# EAGLE library part MODULAR-JACK-6P-RJ11_I2S_MASTER_INPUT (library FaBo-Connetor)
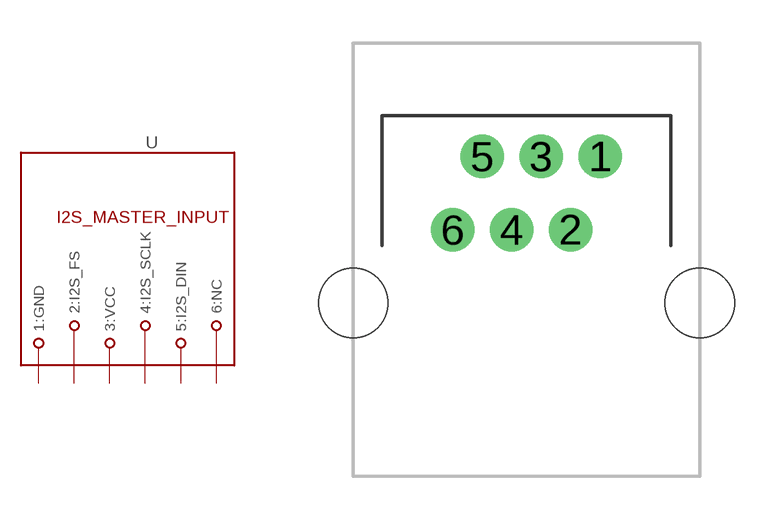
[diagram p15: symbol with the pads of 7002-6PXC-X; footprint 7002-6PXC-X]

Designator prefix -

## MODULAR-JACK-6P-RJ11_I2S_MASTER_INPUT  [7002-6PXC-X]
1  1:GND  sup
2  2:I2S_FS
3  3:VCC  sup
4  4:I2S_SCLK
5  5:I2S_DIN  in
6  6:NC  nc

## Footprint 7002-6PXC-X (pad centres in mm)
drill 1: 1 2.55,5.08; 2 1.53,2.54; 3 0.51,5.08; 4 -0.51,2.54; 5 -1.53,5.08; 6 -2.55,2.54
hole 2.4 at -6,0
hole 2.4 at 6,0